# EAGLE library part ESP-12F (library Co.-ESP)
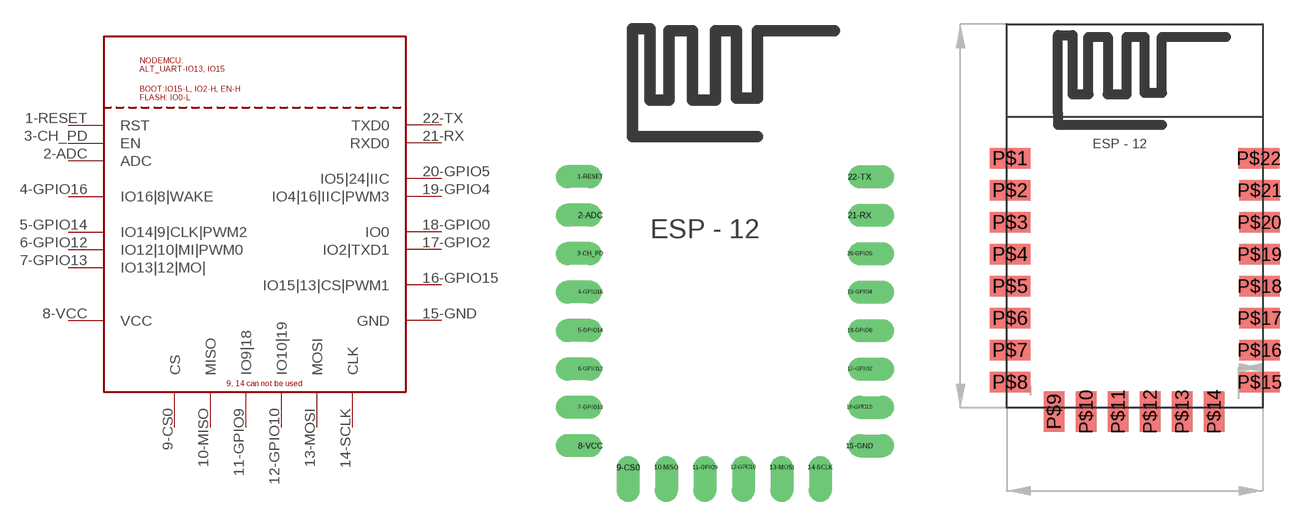
[diagram p16: symbol with the pads of ESP-12-E; footprints ESP-12-E, ESP-12F-SMD]

Designator prefix -

## ESP-12F  [ESP-12-E]
1-RESET  RST
2-ADC  ADC
3-CH_PD  EN
4-GPIO16  IO16|8|WAKE
5-GPIO14  IO14|9|CLK|PWM2
6-GPIO12  IO12|10|MI|PWM0
7-GPIO13  IO13|12|MO|
8-VCC  VCC
9-CS0  CS
10-MISO  MISO
11-GPIO9  IO9|18
12-GPIO10  IO10|19
13-MOSI  MOSI
14-SCLK  CLK
15-GND  GND
16-GPIO15  IO15|13|CS|PWM1
17-GPIO2  IO2|TXD1
18-GPIO0  IO0
19-GPIO4  IO4|16|IIC|PWM3
20-GPIO5  IO5|24|IIC
21-RX  RXD0
22-TX  TXD0

## ESP-12FSMD  [ESP-12F-SMD]
P$1  RST
P$2  ADC
P$3  EN
P$4  IO16|8|WAKE
P$5  IO14|9|CLK|PWM2
P$6  IO12|10|MI|PWM0
P$7  IO13|12|MO|
P$8  VCC
P$9  CS
P$10  MISO
P$11  IO9|18
P$12  IO10|19
P$13  MOSI
P$14  CLK
P$15  GND
P$16  IO15|13|CS|PWM1
P$17  IO2|TXD1
P$18  IO0
P$19  IO4|16|IIC|PWM3
P$20  IO5|24|IIC
P$21  RXD0
P$22  TXD0

## ESP-12FPROG  [ESP-12F-PROG]
1  RST
2  ADC
3  EN
4  IO16|8|WAKE
5  IO14|9|CLK|PWM2
6  IO12|10|MI|PWM0
7  IO13|12|MO|
8  VCC
9  CS
10  MISO
11  IO9|18
12  IO10|19
13  MOSI
14  CLK
15  GND
16  IO15|13|CS|PWM1
17  IO2|TXD1
18  IO0
19  IO4|16|IIC|PWM3
20  IO5|24|IIC
21  RXD0
22  TXD0

## Footprint ESP-12-E (pad centres in mm)
ESP8266 Module ESP-12-E
drill 0.7 offset: 1-RESET -7.1,5.8; 2-ADC -7.1,3.8; 3-CH_PD -7.1,1.8; 4-GPIO16 -7.1,-0.2; 5-GPIO14 -7.1,-2.2; 6-GPIO12 -7.1,-4.2; 7-GPIO13 -7.1,-6.2; 8-VCC -7.1,-8.2; 9-CS0 -5.14,-9.33; 10-MISO -3.14,-9.33; 11-GPIO9 -1.14,-9.33; 12-GPIO10 0.86,-9.33; 13-MOSI 2.86,-9.33; 14-SCLK 4.86,-9.33; 15-GND 6.9,-8.2; 16-GPIO15 6.9,-6.2; 17-GPIO2 6.9,-4.2; 18-GPIO0 6.9,-2.2; 19-GPIO4 6.9,-0.2; 20-GPIO5 6.9,1.8; 21-RX 6.9,3.8; 22-TX 6.9,5.8

## Footprint ESP-12F-SMD (pad centres in mm)
smd 2.54 x 1.27: P$1 -7.8,3.6; P$2 -7.8,1.6; P$3 -7.8,-0.4; P$4 -7.8,-2.4; P$5 -7.8,-4.4; P$6 -7.8,-6.4; P$7 -7.8,-8.4; P$8 -7.8,-10.4; P$15 7.8,-10.4; P$16 7.8,-8.4; P$17 7.8,-6.4; P$18 7.8,-4.4; P$19 7.8,-2.4; P$20 7.8,-0.4; P$21 7.8,1.6; P$22 7.75,3.6
smd 1.27 x 2.54: P$9 -5.05,-12.25; P$10 -3.05,-12.25; P$11 -1.05,-12.25; P$12 0.95,-12.25; P$13 2.95,-12.25; P$14 4.95,-12.25

## Footprint ESP-12F-PROG (pad centres in mm)
drill 0.8 offset: 1 -7.92,8; 2 -7.92,6; 3 -7.92,4; 4 -7.92,2; 5 -7.92,0; 6 -7.92,-2; 7 -7.92,-4; 8 -7.92,-6; 9 -5.09,-7.42; 10 -3.09,-7.42; 11 -1.09,-7.42; 12 0.91,-7.42; 13 2.91,-7.42; 14 4.91,-7.42; 15 7.93,-6; 16 7.93,-4; 17 7.93,-2; 18 7.93,0; 19 7.93,2; 20 7.93,4; 21 7.93,6; 22 7.93,8